# EAGLE library part RASPBERRY_PI_B+/PI2 (library FSE_Weather_Shield)
Raspberry Pi B+ Basedon issue: Thursday, July 10, 2014 - Rev 1.2 LBR by Tim Rettmann 07-2014
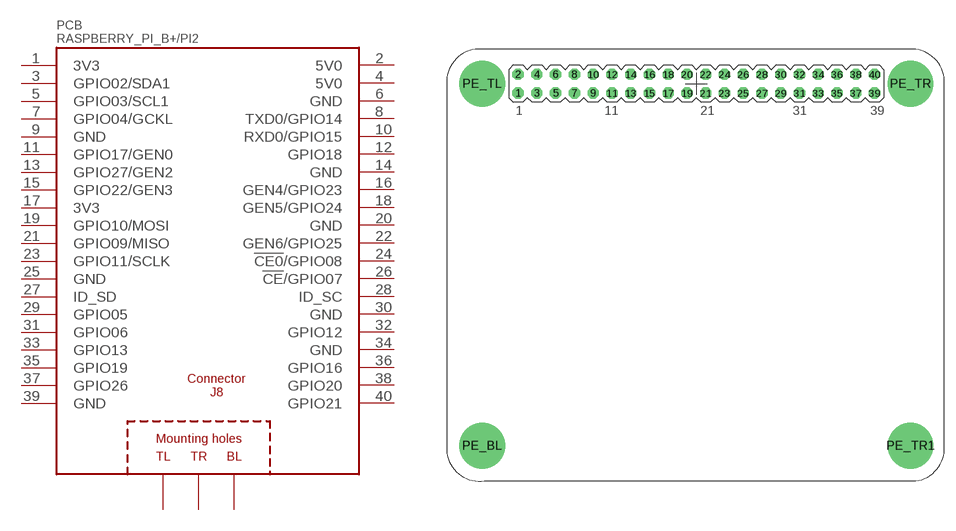
[diagram p0: symbol with the pads of RASPBERRY_PI_BPLUS_DIM; footprint RASPBERRY_PI_BPLUS_DIM]

Designator prefix PCB

## RASPBERRY_PI_B+/PI2_DIM  [RASPBERRY_PI_BPLUS_DIM]
1  3V3  pwr
2  5V0  pwr
3  GPIO02/SDA1
4  5V0  pwr
5  GPIO03/SCL1
6  GND  pwr
7  GPIO04/GCKL
8  TXD0/GPIO14
9  GND  pwr
10  RXD0/GPIO15
11  GPIO17/GEN0
12  GPIO18
13  GPIO27/GEN2
14  GND  pwr
15  GPIO22/GEN3
16  GEN4/GPIO23
17  3V3  pwr
18  GEN5/GPIO24
19  GPIO10/MOSI
20  GND  pwr
21  GPIO09/MISO
22  GEN6/GPIO25
23  GPIO11/SCLK
24  !CE0!/GPIO08
25  GND  pwr
26  !CE!/GPIO07
27  ID_SD
28  ID_SC
29  GPIO05
30  GND  pwr
31  GPIO06
32  GPIO12
33  GPIO13
34  GND  pwr
35  GPIO19
36  GPIO16
37  GPIO26
38  GPIO20
39  GND  pwr
40  GPIO21
PE_BL  BL
PE_TL  TL
PE_TR  TR

## Footprint RASPBERRY_PI_BPLUS_DIM (pad centres in mm)
drill 1.016 octagon: 1 9.64,52.5; 2 9.64,55.04; 3 12.18,52.5; 4 12.18,55.04; 5 14.72,52.5; 6 14.72,55.04; 7 17.26,52.5; 8 17.26,55.04; 9 19.8,52.5; 10 19.8,55.04; 11 22.34,52.5; 12 22.34,55.04; 13 24.88,52.5; 14 24.88,55.04; 15 27.42,52.5; 16 27.42,55.04; 17 29.96,52.5; 18 29.96,55.04; 19 32.5,52.5; 20 32.5,55.04; 21 35.04,52.5; 22 35.04,55.04; 23 37.58,52.5; 24 37.58,55.04; 25 40.12,52.5; 26 40.12,55.04; 27 42.66,52.5; 28 42.66,55.04; 29 45.2,52.5; 30 45.2,55.04; 31 47.74,52.5; 32 47.74,55.04; 33 50.28,52.5; 34 50.28,55.04; 35 52.82,52.5; 36 52.82,55.04; 37 55.36,52.5; 38 55.36,55.04; 39 57.9,52.5; 40 57.9,55.04
drill 2.75 pad 6.2: PE_BL 4.77,4.77; PE_TL 4.77,53.77; PE_TR 62.77,53.77; PE_TR1 62.77,4.77